# EAGLE library part TLP2630 (library TLP2630)
TOSHIBA TLP2630 Optočlen; THT; Kanály:2; Výst: OC; 2,5kV/μs; 10Mbps; DIP8
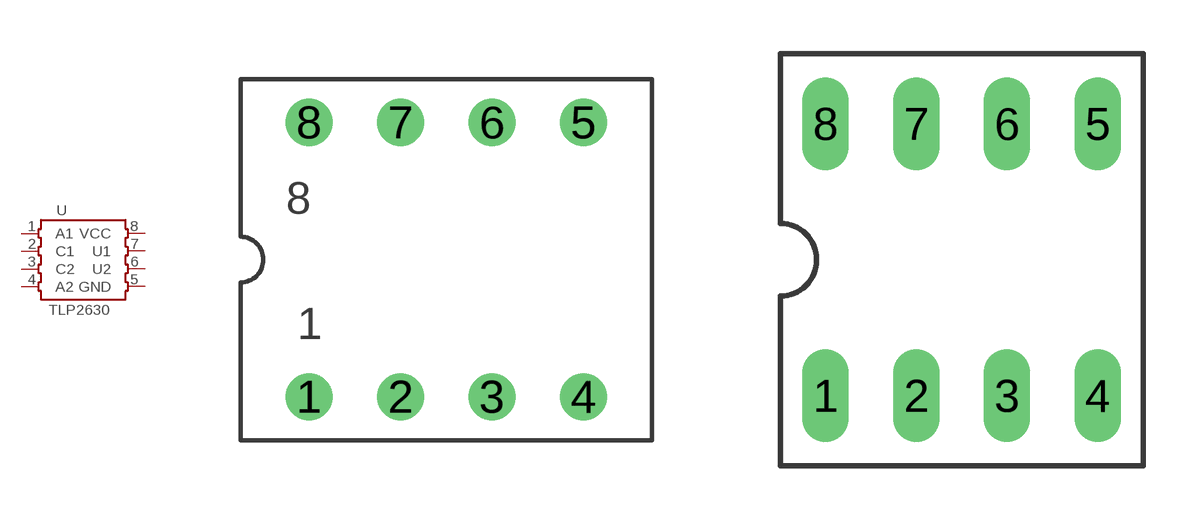
[diagram p0: symbol with the pads of DIL08-A; footprints DIL08-A, DIL08-B]

Designator prefix U

## TLP2630-A (Availability: Unavailable; Description: Logic Output Optoisolator Channel CMTI; MF: Toshiba; MP: TLP2630; Package: DIP-8 Toshiba; Price: None)  [DIL08-A]
1  A1  pas
2  C1  pas
3  C2  pas
4  A2  pas
5  GND  pas
6  U2  pas
7  U1  pas
8  VCC  pas

## TLP2630-B (Availability: Unavailable; Description: Logic Output Optoisolator Channel CMTI; MF: Toshiba; MP: TLP2630; Package: DIP-8 Toshiba; Price: None)  [DIL08-B]
Pads as for DIL08-A

## TLP2630-E (Availability: Unavailable; Description: Logic Output Optoisolator Channel CMTI; MF: Toshiba; MP: TLP2630; Package: DIP-8 Toshiba; Price: None)  [DIL08-E]
Pads as for DIL08-A

## TLP2630-N (Availability: Unavailable; Description: Logic Output Optoisolator Channel CMTI; MF: Toshiba; MP: TLP2630; Package: DIP-8 Toshiba; Price: None)  [SO08]
Pads as for DIL08-A

## Footprint DIL08-A (pad centres in mm)
Dual In Line Package
drill 0.8: 1 -3.81,-3.81; 2 -1.27,-3.81; 3 1.27,-3.81; 4 3.81,-3.81; 5 3.81,3.81; 6 1.27,3.81; 7 -1.27,3.81; 8 -3.81,3.81

## Footprint DIL08-B (pad centres in mm)
Dual In Line Package
drill 0.8 long: 1 -3.81,-3.81; 2 -1.27,-3.81; 3 1.27,-3.81; 4 3.81,-3.81; 5 3.81,3.81; 6 1.27,3.81; 7 -1.27,3.81; 8 -3.81,3.81

## Footprint DIL08-E (pad centres in mm)
Dual In Line Package
drill 0.8 offset: 1 -3.81,-3.81; 2 -1.27,-3.81; 3 1.27,-3.81; 4 3.81,-3.81; 5 3.81,3.81; 6 1.27,3.81; 7 -1.27,3.81; 8 -3.81,3.81

## Footprint SO08 (pad centres in mm)
Small Outline Package 8
smd 0.6 x 2.2: 1 -1.905,-2.6; 2 -0.635,-2.6; 3 0.635,-2.6; 4 1.905,-2.6; 5 1.905,2.6; 6 0.635,2.6; 7 -0.635,2.6; 8 -1.905,2.6